# Altium footprint library Relay.PcbLib: 1 footprints
Each footprint in its own frame and in the unit in brackets; x right, y up, seen from the top. Pads: shape width x height; smd on the part's side, far side on the other; paste and mask are expansions set on the pad; w line width, h text height; cw(c..) or ccw(c..) is an arc to the next point about the centre after c.
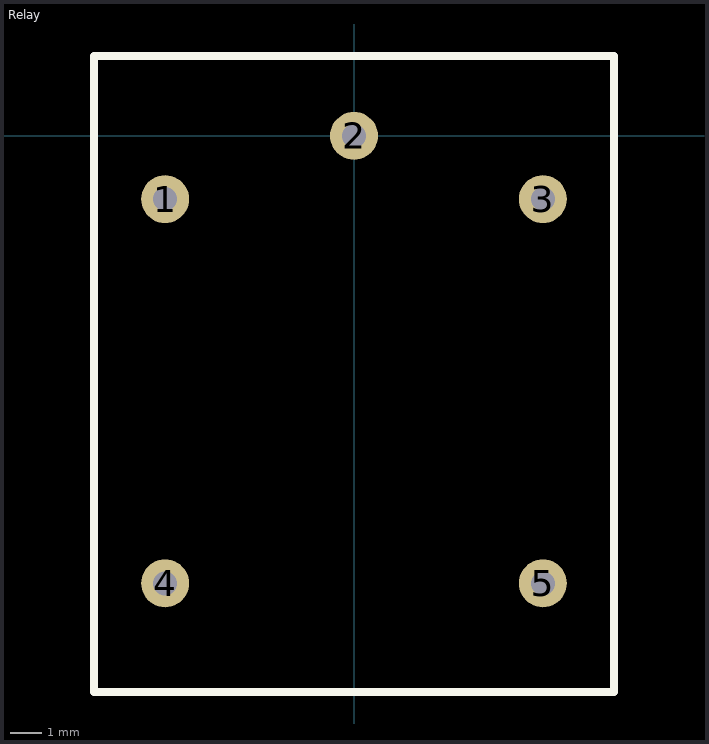
[diagram p0: the footprint, top view; thin cyan lines are the x and y axes]

## Relay [mil]
pads (5):
  round 60 hole 30: 1(-236,-79) 2(0,0) 3(236,-79) 4(-236,-559) 5(236,-559)
Top Overlay:
  lines w10: -325,-695 -325,100 325,100 325,-695 -325,-695